# Altium schematic symbol library SCHLib.SchLib: 80 symbols (part 2 of 3)
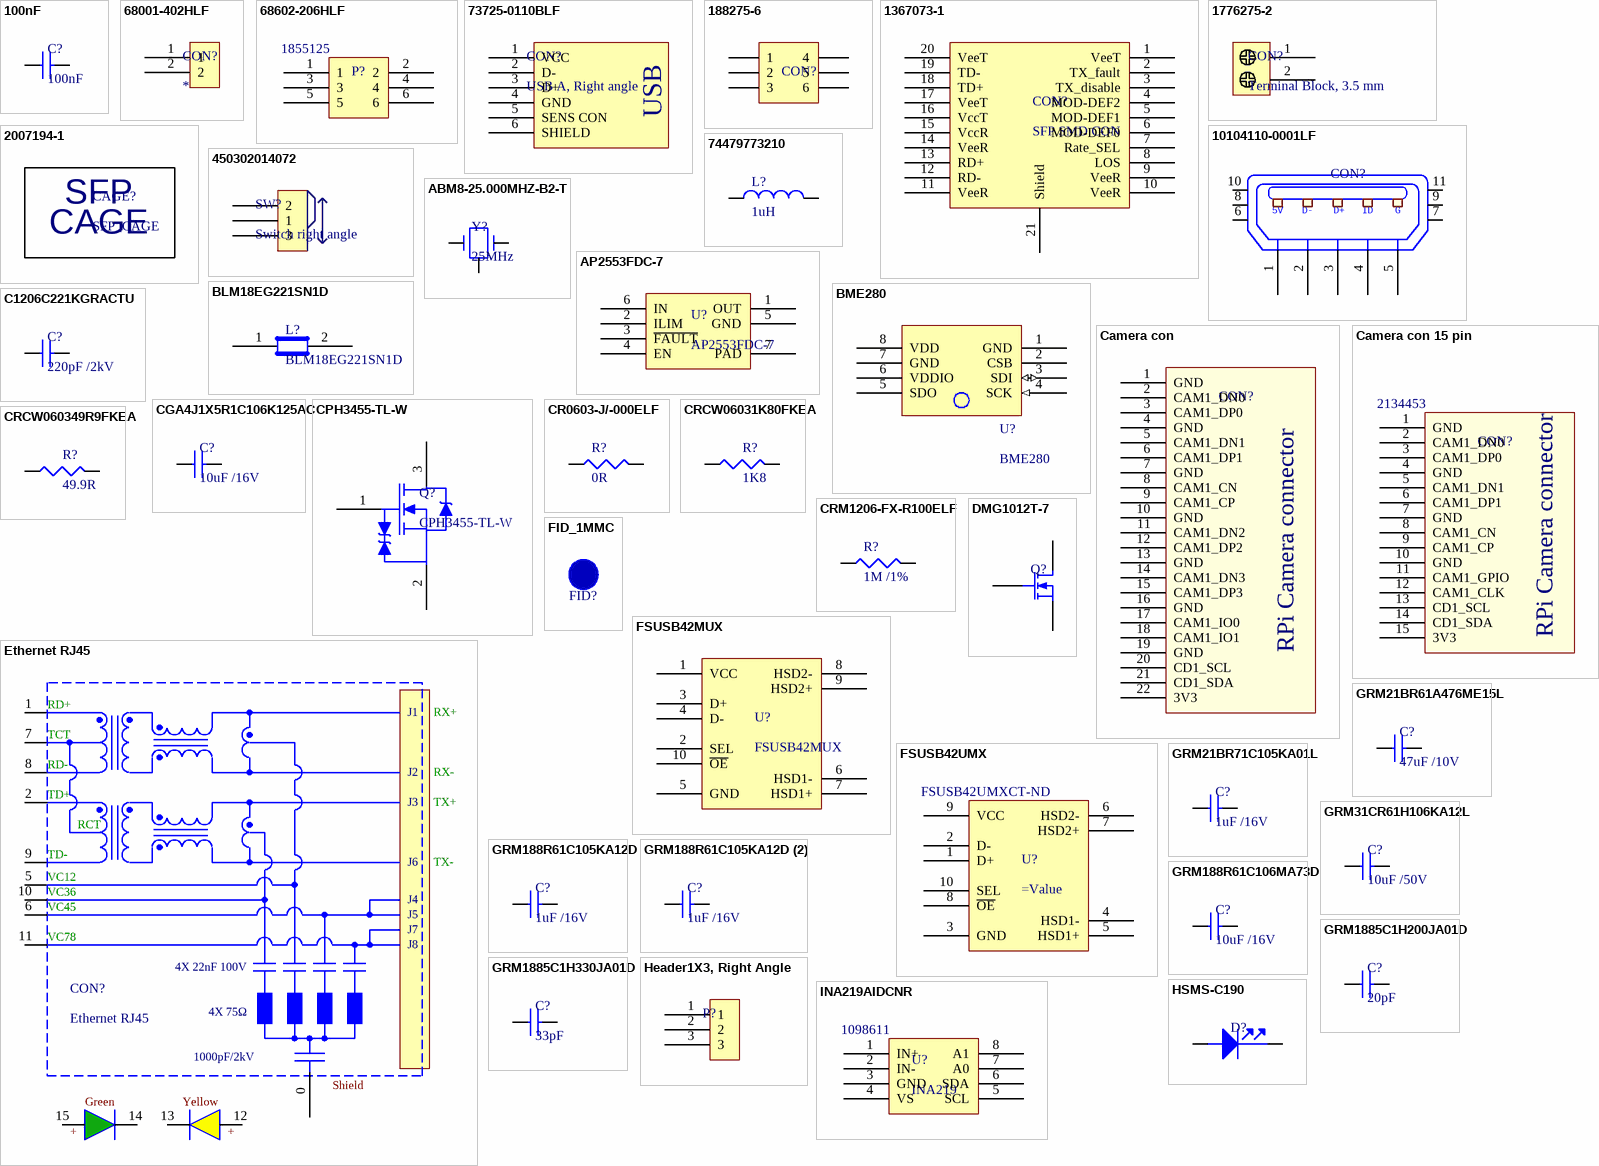
[diagram p3: symbols 100nF to INA219AIDCNR]

## GRM188R61C106MA73D
designator C?, comment 10uF /16V
MURATA - GRM188R61C106MA73D - CAP, MLCC, X5R, 10UF, 16V, 0603; Ceramic Capacitor Case: 0603 [1608 Metric]; Capacitance: 10; Voltage Rating: 16; Capacitance Tolerance: ± 20%; Dielectric Characteristic: X5; Product Range: GRM Series; SVHC: No SVHC (17-Dec-2015)<!--FANDB--><div class="features-and-benefits-container"><div class="features-and-benefits-description"><span class="features-benefits-value">The Murata GRM series capacitors are Multilayer Ceramic Chip Capacitors (MLCC) used for general purpose applications. These MLCC capacitors are classified into temperature compensating and high dielectric constant types depending on the change in electrostatic capacitance due to change in temperature. The temperature compensating capacitors feature a small rate of change in electrostatic capacitance as the temperature changes and are used for applications such as filters and high frequency circuit matching. The high dielectric constant capacitors use materials with a high dielectric constant and feature a large electrostatic capacitance. Typical applications are power supply decoupling and smoothing circuits.</span></div><div class="features-and-benefits-list"><ul class="features-and-benefits-list-list"><li class="features-and-benefits-list-item">Large capacity and small size in a multilayer structure</li><li class="features-and-benefits-list-item">Capacitance value ranging from 0.1pF to 220?F</li><li class="features-and-benefits-list-item">Tin plated external electrodes, excellent solderability</li><li class="features-and-benefits-list-item">Provides good high frequency characteristics</li><li class="features-and-benefits-list-item">Excellent pulse response</li><li class="features-and-benefits-list-item">High reliability</li><li class="features-and-benefits-list-item">Capacitor size varies from 0.4×0.2mm to 5.7×5.0mm</li><li class="features-and-benefits-list-item">Rated voltage of 2.5VDC to 3.15; Supplier 1: Farnell; Manufacturer: MURATA; Manufacturer Part Number: GRM188R61C106MA73D; RoHS: YES; Stock 1: 21735; Pricing 1: 10=0.181, 100=0.103, 500=0.0863, 1000=0.0778, 2000=0.0677 (GBP); Packaging: Cut Tape; Operating Temperature Min: -55; Operating Temperature Max: 85; Automotive Qualification Standard: -; MSL: -; ComponentLink1URL: http://www.farnell.com/datasheets/2048226.pdf; ComponentLink1Description: http://www.farnell.com/datasheets/2048226.pdf; Supplier Part Number 1: 2426958
footprint CAP0603
pins: 1, 2

## GRM1885C1H200JA01D
designator C?, comment 20pF
MURATA - GRM1885C1H200JA01D - CAPACITOR, MLCC, C0G, 20PF, 50V, 0603; Ceramic Capacitor Case: 0603 [1608 Metric]; Capacitance: 20; Voltage Rating: 50; Capacitance Tolerance: ± 5%; Dielectric Characteristic: C0G / NP0; Product Range: GRM Series; SVHC: No SVHC (17-Dec-2015; Supplier 1: Farnell; Manufacturer: MURATA; Manufacturer Part Number: GRM1885C1H200JA01D; RoHS: YES; Stock 1: 5812; Pricing 1: 10=0.0245, 100=0.0159, 500=0.0123, 1000=0.0095, 2000=0.0093, 4000=0.0073, 20000=0.0062, 40000=0.0057 (GBP); Packaging: Cut Tape; Operating Temperature Min: -55; Operating Temperature Max: 125; Automotive Qualification Standard: -; MSL: MSL 1 - Unlimited; ComponentLink1URL: http://www.farnell.com/datasheets/2048077.pdf; ComponentLink1Description: http://www.farnell.com/datasheets/2048077.pdf; Supplier Part Number 1: 2456108
footprint CAP0603
pins: 1, 2

## GRM1885C1H330JA01D
designator C?, comment 33pF
MURATA - GRM1885C1H330JA01D - CAP, MLCC, C0G/NP0, 33PF, 50V, 0603; Ceramic Capacitor Case: 0603 [1608 Metric]; Capacitance: 33; Voltage Rating: 50; Capacitance Tolerance: ± 5%; Product Range: GRM Series; SVHC: No SVHC (17-Dec-2015); Capacitor Terminals: SMD<!--FANDB--><div class="features-and-benefits-container"><div class="features-and-benefits-description"><span class="features-benefits-value">The Murata GRM series capacitors are Multilayer Ceramic Chip Capacitors (MLCC) used for general purpose applications. These MLCC capacitors are classified into temperature compensating and high dielectric constant types depending on the change in electrostatic capacitance due to change in temperature. The temperature compensating capacitors feature a small rate of change in electrostatic capacitance as the temperature changes and are used for applications such as filters and high frequency circuit matching. The high dielectric constant capacitors use materials with a high dielectric constant and feature a large electrostatic capacitance. Typical applications are power supply decoupling and smoothing circuits.</span></div><div class="features-and-benefits-list"><ul class="features-and-benefits-list-list"><li class="features-and-benefits-list-item">Large capacity and small size in a multilayer structure</li><li class="features-and-benefits-list-item">Capacitance value ranging from 0.1pF to 220?F</li><li class="features-and-benefits-list-item">Tin plated external electrodes, excellent solderability</li><li class="features-and-benefits-list-item">Provides good high frequency characteristics</li><li class="features-and-benefits-list-item">Excellent pulse response</li><li class="features-and-benefits-list-item">High reliability</li><li class="features-and-benefits-list-item">Capacitor size varies from 0.4×0.2mm to 5.7×5.0mm</li><li class="features-and-benefits-list-item">Rated voltage of 2.5VDC to 3.15; Supplier 1: Farnell; Manufacturer: MURATA; Manufacturer Part Number: GRM1885C1H330JA01D; RoHS: YES; Stock 1: 11752; Pricing 1: 10=0.0153, 100=0.0104, 500=0.0085, 1000=0.0069, 2000=0.0063 (GBP); Dielectric Characteristic: C0G / NP0; Packaging: Cut Tape; Operating Temperature Min: -55; Operating Temperature Max: 125; Automotive Qualification Standard: -; MSL: -; Capacitance Tolerance ±: ± 5%; ComponentLink1URL: http://www.farnell.com/datasheets/2048656.pdf; ComponentLink1Description: http://www.farnell.com/datasheets/2048656.pdf; Supplier Part Number 1: 1828910
footprint CAP0603
pins: 1, 2

## Header1X3, Right Angle
designator P?, comment HDR1X3  (value not drawn)
Header1X3, Right Angle; Manufacturer: AMP - TE CONNECTIVITY; Manufacturer Part Number: 826949-6; Pitch Spacing: 2.54; No. of Contacts: 6; Gender: Header; Product Range: AMPMODU MOD II Series; Contact Termination Type: Through Hole; No. of Rows: 1; SVHC: No SVHC (15-Jun-2015); Contact Termination: Through Hole Right Angle; Current Rating: 3; Supplier 1: Farnell; RoHS: YES; Stock 1: 350; Pricing 1: 10=0.34, 50=0.195, 500=0.162, 1000=0.154, 2500=0.148, 5000=0.14 (GBP); Contact Plating: Tin Plated Contacts; Contact Material: Brass; Flammability Rating: UL94V-0; Housing: Green, glass filled polyester; Lead Spacing: 2.54; Termination Method: Solder<!--FANDB--><div class="features-and-benefits-container"><div class="features-and-benefits-description"><span class="features-benefits-value">The TE Connectivity AMPMODU Mod II breakaway pin headers provide a comprehensive solution for popular connection standard. These headers can be conveniently broken to any size to ensure maximum versatility and are available in straight and right angle. Mod II breakaway headers are compatible with mating receptacles assured through a range of pin lengths and plating options. Pin headers are offered for surface mount, press fit action pin and standard through hole solder types.</span></div><div class="features-and-benefits-list"><ul class="features-and-benefits-list-list"><li class="features-and-benefits-list-item">Comprehensive single and double row connector system</li><li class="features-and-benefits-list-item">Current rating 3A max per contact</li><li class="features-and-benefits-list-item">Pitch size is 2.54mm</li><li class="features-and-benefits-list-item">Operating temperature range -55°C to +105°C</li><li class="features-and-benefits-list-item">Contact resistance of 20mohm</li><li class="features-and-benefits-list-item">Insulation resistance of 1000Mohm</li><li class="features-and-benefits-list-item">Tin and gold plated contacts available</li><li class="features-and-benefits-list-item">Features 0.63; ComponentLink1URL: http://www.farnell.com/cad/1656407.pdf; ComponentLink1Description: http://www.farnell.com/cad/1656407.pdf; ComponentLink2URL: http://www.farnell.com/datasheets/38081.pdf; ComponentLink2Description: http://www.farnell.com/datasheets/38081.pdf; Supplier Part Number 1: 1248180
footprint HDR1X3H (Connector; Header; 3 Position; Right Angle)
pins: 1, 2, 3

## HSMS-C190
designator D?, comment LED RED  (value not drawn)
BROADCOM LIMITED - HSMS-C190 - LED, RED, 10MCD, 626NM; LED Mounting: SMD; Forward Current If: 20; Forward Voltage: 2.1; Wavelength Typ: 626; Luminous Intensity: 10; Viewing Angle: 170°; Lens Shape: Rectangular; SVHC: No SVHC (17-Dec-2015)<!--FANDB--><div class="features-and-benefits-container"><div class="features-and-benefits-description"><span class="features-benefits-value">The HSMS-C190 is a HER SMD Chip LED with untinted/diffused lens, made of GaP. It is designed in an industry standard package 1.6 x 0.8mm footprint with 0.8mm profile. It is compatible with IR reflow solder processes. The small size and wide viewing angle make this LED prime choices for backlighting applications and front panel illumination especially where space is a premium.</span></div><div class="features-and-benefits-list"><ul class="features-and-benefits-list-list"><li class="features-and-benefits-list-item">Small size</li><li class="features-and-benefits-list-item">Industry standard footprint</li><li class="features-and-benefits-list-item">Compatible with IR solder</li><li class="features-and-benefits-list-item">Diffused optics</li><li class="features-and-benefits-list-item">-40 to 85; Supplier 1: Farnell; Manufacturer: BROADCOM LIMITED; Manufacturer Part Number: HSMS-C190; RoHS: YES; Stock 1: 7534; Pricing 1: 1=0.361, 10=0.256, 50=0.235, 100=0.106, 200=0.101 (GBP); LED Colour: Red; Bulb Size: -; Packaging: Cut Tape; Product Range: -; Automotive Qualification Standard: -; MSL: -; ComponentLink1URL: http://www.farnell.com/datasheets/313031.pdf; ComponentLink1Description: http://www.farnell.com/datasheets/313031.pdf; ComponentLink2URL: http://www.farnell.com/datasheets/1681524.pdf; ComponentLink2Description: http://www.farnell.com/datasheets/1681524.pdf; ComponentLink3URL: http://www.farnell.com/datasheets/2165483.pdf; ComponentLink3Description: http://www.farnell.com/datasheets/2165483.pdf; Supplier Part Number 1: 2497356
footprint LED0603
pins: 1 cathode, 2 ANODE

## INA219AIDCNR
designator U?, comment INA219  Supplier Part Number 2: 1098611
TEXAS INSTRUMENTS - INA219AIDCNR - CURRENT / POWER MONITOR, 120DB, 8SOT23; No. of Amplifiers: 1 Amplifier; Amplifier Case Style: SOT-23; No. of Pins: 8; Bandwidth: 3.4; Supply Voltage Min: 3; Supply Voltage Max: 5.5; Input Offset Voltage: 10; CMRR: 120; SVHC: No SVHC (15-Jun-2015); Supply Current: 700; Supply Voltage Range: 3V to 5.5V<!--FANDB--><div class="features-and-benefits-container"><div class="features-and-benefits-description"><span class="features-benefits-value">The INA219AIDCNR is a high-side Current Shunt and Power Monitor with an I²C interface. The INA219AIDCNR monitors both shunt drop and supply voltage, with programmable conversion times and filtering. A programmable calibration value, combined with an internal multiplier, enables direct readouts in amperes. An additional multiplying register calculates power in watts. The I²C interface features 16 programmable addresses. The INA219 is available in two grades; Pitch Spacing: 3.5; No. of Positions: 2; Wire Size AWG Min: 26; Wire Size AWG Max: 18; Conductor Area CSA: 0.9; Wire Connection Method: Screw; Rated Current: 7; Rated Voltage: 250; Block Orientation: Through Hole Right Angle; Approval Bodies: CSA, UL; Connector Mounting: PCB Mount; Connector Type: Terminal Block, PCB; Wire Area Size Max: 2.08mm²<!--FANDB--><div class="features-and-benefits-container"><div class="features-and-benefits-description"><span class="features-benefits-value">The 1776275-2 from TE Connectivity is a through hole, 2 position vertical PCB mount terminal block with interlocking. This terminal block comes with 3.5mm pitch spacing and is suitable for wire size ranging from 26AWG to 18; Supplier 1: Farnell; Manufacturer: TEXAS INSTRUMENTS; Manufacturer Part Number: INA219AIDCNR; RoHS: YES; Stock 1: 1771; Pricing 1: 1=1.87, 10=1.48, 25=1.33, 100=1.2, 250=1.13, 500=0.751 (GBP); Input Bias Current: -; Operating Temperature Min: -25; Operating Temperature Max: 85; Packaging: Cut Tape; Product Range: -; Automotive Qualification Standard: -; MSL: MSL 2 - 1 year; ComponentLink1URL: http://www.farnell.com/datasheets/2019169.pdf; ComponentLink1Description: http://www.farnell.com/datasheets/2019169.pdf; ComponentLink2URL: http://www.farnell.com/cad/1758439.zip; ComponentLink2Description: http://www.farnell.com/cad/1758439.zip; ComponentLink3URL: http://www.farnell.com/datasheets/2037325.pdf; ComponentLink3Description: http://www.farnell.com/datasheets/2037325.pdf; Supplier Part Number 1: 2295989; Supplier 2: Farnell; Stock 2: 22978; Pricing 2: 1=0.198, 50=0.148, 150=0.141, 250=0.135, 500=0.128, 1500=0.123 (GBP); Colour: Blue; Contact Current Rating: 10; Contact Material: Brass; Contact Plating: Tin Plated Contacts; Lead Spacing: 3.5; Voltage Rating VAC: 250; ComponentLink4URL: http://www.farnell.com/datasheets/1899918.pdf; ComponentLink4Description: http://www.farnell.com/datasheets/1899918.pdf; ComponentLink5URL: http://www.farnell.com/cad/2291290.pdf; ComponentLink5Description: http://www.farnell.com/cad/2291290.pdf; ComponentLink6URL: http://www.farnell.com/datasheets/1650926.pdf; ComponentLink6Description: http://www.farnell.com/datasheets/1650926.pdf; ComponentLink7URL: http://www.farnell.com/datasheets/2159487.pdf; ComponentLink7Description: http://www.farnell.com/datasheets/2159487.pdf
footprint SOT23-8PIN
pins: 1 IN+ (oc), 2 IN- (oc), 3 GND (oc), 4 VS (oc), 5 SCL (oc), 6 SDA (oc), 7 A0 (oc), 8 A1 (oc)

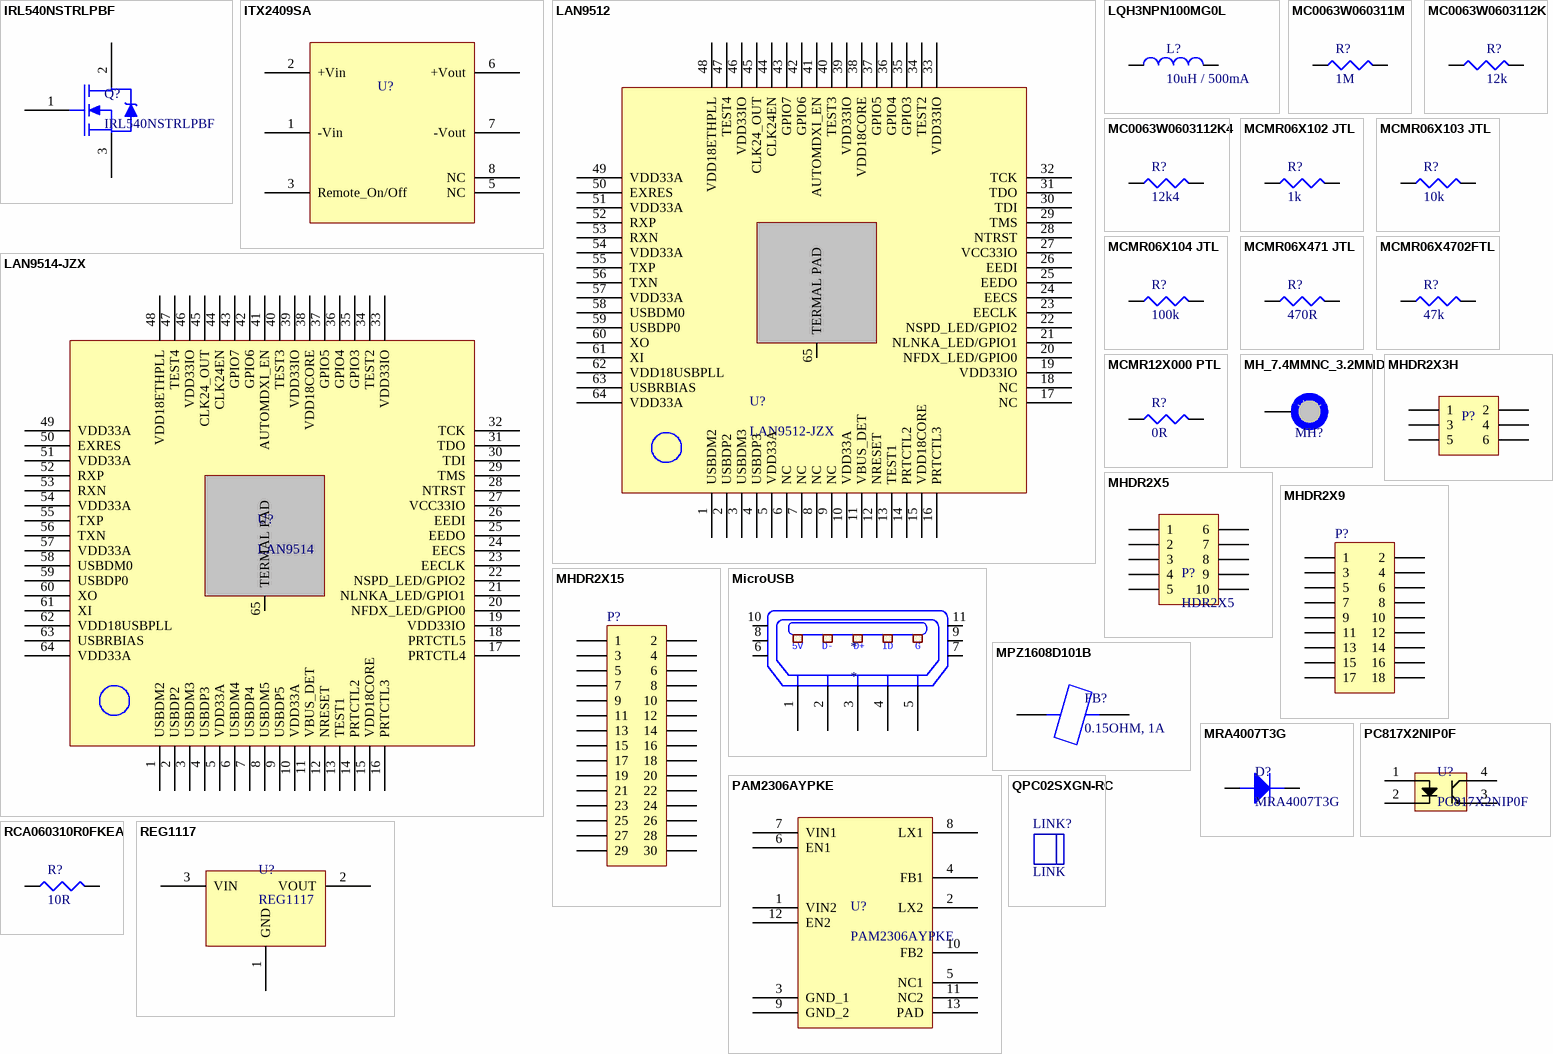
[diagram p1: symbols IRL540NSTRLPBF to REG1117]

## IRL540NSTRLPBF
designator Q?
INFINEON - IRL540NSTRLPBF - MOSFET, N-CH, 100V, 36A, TO-263; Transistor Polarity: N Channel; Continuous Drain Current Id: 36; Drain Source Voltage Vds: 100; On Resistance Rds(on): 0.044; Rds(on) Test Voltage Vgs: 10; Threshold Voltage Vgs: 2; Power Dissipation Pd: 140; No. of Pins: 3; Product Range: HEXFET Series; SVHC: No SVHC (12-Jan-2017)<!--FANDB--><div class="features-and-benefits-container"><div class="features-and-benefits-desc-container"><span class="features-and-benefits-container-desc">MOSFET Transistor, N Channel, 36 A, 100 V, 0.044 ohm, 10 V, 2 V</span></div></div>; Supplier 1: Farnell; Manufacturer: INFINEON; Manufacturer Part Number: IRL540NSTRLPBF; RoHS: YES; Stock 1: 655; Pricing 1: 1=0.832, 10=0.723, 100=0.565, 250=0.511, 500=0.443, 1000=0.373 (GBP); Transistor Case Style: TO-263; Operating Temperature Max: 175; Automotive Qualification Standard: -; MSL: MSL 1 - Unlimited; ComponentLink1URL: http://www.farnell.com/datasheets/140629.pdf; ComponentLink1Description: http://www.farnell.com/datasheets/140629.pdf; ComponentLink2URL: http://www.farnell.com/datasheets/2062819.pdf; ComponentLink2Description: http://www.farnell.com/datasheets/2062819.pdf; Supplier Part Number 1: 2726001
pins: 1 (oc), 2 (oc), 3 (oc)

## ITX2409SA
designator U?  (value not drawn)
Isolated Board Mount DC/DC Converter, 2:1 Input, Fixed, 1 Output, 18 V, 36 V, 6 W, 9 V; Manufacturer: XP POWER; Input Voltage DC Min: 18; Input Voltage DC Max: 36; Output Power Max: 6; Output Voltage - Output 1: 9; Output Current - Output 1: 666; DC / DC Converter Mounting: Through Hole; Product Range: ITX Series<!--FANDB--><div class="features-and-benefits-container"><div class="features-and-benefits-description"><span class="features-benefits-value">The ITX series isolated 6W DC-DC Converter.</span></div><div class="features-and-benefits-list"><ul class="features-and-benefits-list-list"><li class="features-and-benefits-list-item">Single and dual outputs</li><li class="features-and-benefits-list-item">Remote control option</li><li class="features-and-benefits-list-item">2; Supplier 1: Farnell; Manufacturer Part Number: ITX2409SA; RoHS: YES; Pricing 1: 1=15.41, 5=14.95, 10=14.49, 25=13.87, 100=12.95 (GBP); DC / DC Converter Output Type: Fixed; No. of Outputs: 1 Output; Output Voltage - Output 2: -; Output Current - Output 2: -; DC / DC Converter Type: -; Approvals & Standards: -; Width: 9.2; Height: 11.1; Depth: 21.85; Output Voltage - Output 3: -; Output Current - Output 3: -; ComponentLink1URL: http://www.farnell.com/datasheets/1816507.pdf; ComponentLink1Description: http://www.farnell.com/datasheets/1816507.pdf; Supplier 2: Digi-Key; Supplier Part Number 1: 2422810; Supplier Part Number 2: 1470-2544-5-ND
footprint DCDC_M1
pins: 1 -Vin (oc), 2 +Vin (oc), 3 Remote_On/Off (oc), 5 NC (oc), 6 +Vout (oc), 7 -Vout (oc), 8 NC (oc)

## LAN9512
designator U?, comment LAN9512-JZX
USB 2.0 Hub and 10/100  Ethernet Controller; Manufacturer: MICROCHIP; Resistance: 1; Voltage Rating: 50; Resistor Case Style: 0603 [1608 Metric]; Power Rating: 63; Resistance Tolerance: ± 1%; Product Range: MC Series; Resistor Element Material: Thick Film; Temperature Coefficient: ± 100; SVHC: No SVHC (17-Dec-2015); External Depth: 0.45; External Length / Height: 1.6; External Width: 0.8; No. of Pins: 2; Reel Quantity: 5000; Resistor Mounting: Surface Mount Device; Temperature Coeff. +: 100; Tolerance +: 1%; Voltage Rating V DC: 50V<!--FANDB--><div class="features-and-benefits-container"><div class="features-and-benefits-description"><span class="features-benefits-value">The Multicomp MC series current sense resistors are thick film chip resistors. The resistance range includes E96 and E24 decade values from 1ohm to 10Mohm.</span></div><div class="features-and-benefits-list"><ul class="features-and-benefits-list-list"><li class="features-and-benefits-list-item">EIA 0402, 0603, 0805, 1206 chip sizes available</li><li class="features-and-benefits-list-item">Small size and low weight</li><li class="features-and-benefits-list-item">Suitable for both wave and reflow soldering</li><li class="features-and-benefits-list-item">Reduction of assembly costs</li><li class="features-and-benefits-list-item">Maximum working voltage of 50V(0402, 0603), 150V(0805), 200V(1206)</li><li class="features-and-benefits-list-item">Available in ±1%, ±2% and ±5% tolerance</li><li class="features-and-benefits-list-item">Power rating of 62.5mW, 100mW and 125mW</li><li class="features-and-benefits-list-item">±400ppm/°C(1ohm to 10ohm), ±200ppm/°C(11ohm to 100ohm), ±100; Supplier 1: Farnell; Manufacturer Part Number: LAN9512-JZX; RoHS: YES; Pricing 1: 1=3.98, 10=3.62, 25=3.23, 50=3.05, 100=2.87 (GBP); ComponentLink1URL: http://www.farnell.com/datasheets/1686385.pdf; ComponentLink1Description: http://www.farnell.com/datasheets/1686385.pdf; ComponentLink2URL: http://www.farnell.com/cad/1726729.zip; ComponentLink2Description: http://www.farnell.com/cad/1726729.zip; ComponentLink3URL: http://www.farnell.com/datasheets/2158582.pdf; ComponentLink3Description: http://www.farnell.com/datasheets/2158582.pdf; Supplier Part Number 1: 2292586; Supplier 2: Farnell; Stock 2: 333415; Pricing 2: 10=0.0011, 100=0.001, 500=0.0009, 1000=0.0008, 2500=0.0007 (GBP); Packaging: Cut Tape; Automotive Qualification Standard: -; Operating Temperature Max: 155; Operating Temperature Min: -55; Operating Temperature Range: -55°C to +155; Tape Width: 8; Temperature Coeff. -: 100; Tolerance -: 1%; ComponentLink4URL: http://www.farnell.com/datasheets/1788326.pdf; ComponentLink4Description: http://www.farnell.com/datasheets/1788326.pdf; ComponentLink5URL: http://www.farnell.com/cad/1558928.zip; ComponentLink5Description: http://www.farnell.com/cad/1558928.zip; Supplier Part Number 2: 9330410
footprint QFN64
pins: 1 USBDM2, 2 USBDP2, 3 USBDM3, 4 USBDP3, 5 VDD33A, 6 NC, 7 NC, 8 NC, 9 NC, 10 VDD33A, 11 VBUS_DET, 12 NRESET, 13 TEST1, 14 PRTCTL2, 15 VDD18CORE, 16 PRTCTL3, 17 NC, 18 NC, 19 VDD33IO, 20 NFDX_LED/GPIO0, 21 NLNKA_LED/GPIO1, 22 NSPD_LED/GPIO2, 23 EECLK, 24 EECS, 25 EEDO, 26 EEDI, 27 VCC33IO, 28 NTRST, 29 TMS, 30 TDI, 31 TDO, 32 TCK, 33 VDD33IO, 34 TEST2, 35 GPIO3, 36 GPIO4, 37 GPIO5, 38 VDD18CORE, 39 VDD33IO, 40 TEST3, 41 AUTOMDXI_EN, 42 GPIO6, 43 GPIO7, 44 CLK24EN, 45 CLK24_OUT, 46 VDD33IO, 47 TEST4, 48 VDD18ETHPLL, 49 VDD33A, 50 EXRES, 51 VDD33A, 52 RXP, 53 RXN, 54 VDD33A, 55 TXP, 56 TXN, 57 VDD33A, 58 USBDM0, 59 USBDP0, 60 XO, 61 XI, 62 VDD18USBPLL, 63 USBRBIAS, 64 VDD33A, 65 TERMAL PAD (oc)

## LAN9514-JZX
designator U?, comment LAN9514
MICROCHIP - LAN9514-JZX - IC, USB2 - ENET CNTRL 4-PORT HUB, 64VQFN; Supplier 1: Farnell; Manufacturer: MICROCHIP; Manufacturer Part Number: LAN9514-JZX; RoHS: YES; Stock 1: 1046; Pricing 1: 1=5.09, 10=4.39, 25=3.94, 50=3.66, 100=3.36 (GBP); ComponentLink1URL: http://www.farnell.com/datasheets/1686386.pdf; ComponentLink1Description: http://www.farnell.com/datasheets/1686386.pdf; ComponentLink2URL: http://www.farnell.com/cad/1726731.zip; ComponentLink2Description: http://www.farnell.com/cad/1726731.zip; ComponentLink3URL: http://www.farnell.com/datasheets/2158582.pdf; ComponentLink3Description: http://www.farnell.com/datasheets/2158582.pdf; Supplier Part Number 1: 2292587
footprint QFN64
pins: 1 USBDM2, 2 USBDP2, 3 USBDM3, 4 USBDP3, 5 VDD33A, 6 USBDM4, 7 USBDP4, 8 USBDM5, 9 USBDP5, 10 VDD33A, 11 VBUS_DET, 12 NRESET, 13 TEST1, 14 PRTCTL2, 15 VDD18CORE, 16 PRTCTL3, 17 PRTCTL4, 18 PRTCTL5, 19 VDD33IO, 20 NFDX_LED/GPIO0, 21 NLNKA_LED/GPIO1, 22 NSPD_LED/GPIO2, 23 EECLK, 24 EECS, 25 EEDO, 26 EEDI, 27 VCC33IO, 28 NTRST, 29 TMS, 30 TDI, 31 TDO, 32 TCK, 33 VDD33IO, 34 TEST2, 35 GPIO3, 36 GPIO4, 37 GPIO5, 38 VDD18CORE, 39 VDD33IO, 40 TEST3, 41 AUTOMDXI_EN, 42 GPIO6, 43 GPIO7, 44 CLK24EN, 45 CLK24_OUT, 46 VDD33IO, 47 TEST4, 48 VDD18ETHPLL, 49 VDD33A, 50 EXRES, 51 VDD33A, 52 RXP, 53 RXN, 54 VDD33A, 55 TXP, 56 TXN, 57 VDD33A, 58 USBDM0, 59 USBDP0, 60 XO, 61 XI, 62 VDD18USBPLL, 63 USBRBIAS, 64 VDD33A, 65 TERMAL PAD (oc)

## LQH3NPN100MG0L
designator L?, comment 10uH / 500mA
Fixed Inductors 1212 10uH 20%; Manufacturer: Murata Electronics; Manufacturer Part Number: LQH3NPN100MG0L; Core Material: Ferrite Core; Maximum DC Resistance: 0.57 Ohms; Self Resonant Frequency: 45 MHz; Shielding: Shielded; Type: Power Wound Type Chip Coil Chip Inductors; Supplier 1: Mouser; RoHS: RoHS Compliant; Category: Fixed Inductors; Stock 1: 1981; Pricing 1: 1=0.396, 10=0.303, 100=0.243, 500=0.210, 1500=0.146, 3000=0.138, 9000=0.125, 24000=0.122, 49500=0.115 (EUR); Diameter: -; Height: 0.9 mm; Inductance: 10 uH; Length: 3 mm; Maximum DC Current: 500 mA; Operating Temperature Range: - 40 C to + 125 C; Package/Case: 1212 (3030 metric); Packaging: Reel; Product: Power Inductors; Q Minimum: -; Series: LQH N; Termination Style: SMD/SMT; Tolerance: 20 %; Width: 3 mm; Brand: Murata Electronics; Mounting Style: SMD/SMT; Lead Diameter: -; Lead Spacing: -; Standard Pack Qty: 1500; Test Frequency: -; RoHS - Mouser: Y; Minimum Order Quantity: 1; Reeling: True; ComponentLink1URL: http://www.mouser.com/ds/2/281/L0075S0103LQH3NP_M0-1074877.pdf; ComponentLink1Description: http://www.mouser.com/ds/2/281/L0075S0103LQH3NP_M0-1074877.pdf; Supplier Part Number 1: 81-LQH3NPN100MG0L
footprint IND1212
pins: 1, 2

## MC0063W060311M
designator R?, comment 1M
MULTICOMP - MC0063W060311M - RES, THICK FILM, 1M, 1%, 0.063W, 0603; Resistance: 1; Voltage Rating: 50; Resistor Case Style: 0603 [1608 Metric]; Power Rating: 63; Product Range: MC Series; Temperature Coefficient: ± 100; SVHC: No SVHC (17-Dec-2015); External Depth: 0.45; External Length / Height: 1.6; External Width: 0.8; No. of Pins: 2; Reel Quantity: 5000; Resistor Mounting: Surface Mount Device; Temperature Coeff. +: 100; Voltage Rating V DC: 50V<!--FANDB--><div class="features-and-benefits-container"><div class="features-and-benefits-description"><span class="features-benefits-value">The Multicomp MC series current sense resistors are thick film chip resistors. The resistance range includes E96 and E24 decade values from 1ohm to 10Mohm.</span></div><div class="features-and-benefits-list"><ul class="features-and-benefits-list-list"><li class="features-and-benefits-list-item">EIA 0402, 0603, 0805, 1206 chip sizes available</li><li class="features-and-benefits-list-item">Small size and low weight</li><li class="features-and-benefits-list-item">Suitable for both wave and reflow soldering</li><li class="features-and-benefits-list-item">Reduction of assembly costs</li><li class="features-and-benefits-list-item">Maximum working voltage of 50V(0402, 0603), 150V(0805), 200V(1206)</li><li class="features-and-benefits-list-item">Available in ±1%, ±2% and ±5% tolerance</li><li class="features-and-benefits-list-item">Power rating of 62.5mW, 100mW and 125mW</li><li class="features-and-benefits-list-item">±400ppm/°C(1ohm to 10ohm), ±200ppm/°C(11ohm to 100ohm), ±100; Supplier 1: Farnell; Manufacturer: MULTICOMP; Manufacturer Part Number: MC0063W060311M; RoHS: Y-EX; Stock 1: 333415; Pricing 1: 10=0.0011, 100=0.001, 500=0.0009, 1000=0.0008, 2500=0.0007 (GBP); Resistance Tolerance: ± 1%; Packaging: Cut Tape; Resistor Element Material: Thick Film; Automotive Qualification Standard: -; Operating Temperature Max: 155; Operating Temperature Min: -55; Operating Temperature Range: -55°C to +155; Tape Width: 8; Temperature Coeff. -: 100; Tolerance +: 1%; Tolerance -: 1%; ComponentLink1URL: http://www.farnell.com/datasheets/1788326.pdf; ComponentLink1Description: http://www.farnell.com/datasheets/1788326.pdf; ComponentLink2URL: http://www.farnell.com/cad/1558928.zip; ComponentLink2Description: http://www.farnell.com/cad/1558928.zip; Supplier Part Number 1: 9330410
footprint RES0603
pins: 1, 2

## MC0063W0603112K
designator R?, comment 12k
MULTICOMP - MC0063W0603112K - RES, THICK FILM, 12K, 1%, 0.063W, 0603; Resistance: 12; Voltage Rating: 50; Resistor Case Style: 0603 [1608 Metric]; Power Rating: 63; Product Range: MC Series; Temperature Coefficient: ± 100; Reel Quantity: 5000; Resistor Mounting: Surface Mount Device<!--FANDB--><div class="features-and-benefits-container"><div class="features-and-benefits-description"><span class="features-benefits-value">The Multicomp MC series current sense resistors are thick film chip resistors. The resistance range includes E96 and E24 decade values from 1ohm to 10Mohm.</span></div><div class="features-and-benefits-list"><ul class="features-and-benefits-list-list"><li class="features-and-benefits-list-item">EIA 0402, 0603, 0805, 1206 chip sizes available</li><li class="features-and-benefits-list-item">Small size and low weight</li><li class="features-and-benefits-list-item">Suitable for both wave and reflow soldering</li><li class="features-and-benefits-list-item">Reduction of assembly costs</li><li class="features-and-benefits-list-item">Maximum working voltage of 50V(0402, 0603), 150V(0805), 200V(1206)</li><li class="features-and-benefits-list-item">Available in ±1%, ±2% and ±5% tolerance</li><li class="features-and-benefits-list-item">Power rating of 62.5mW, 100mW and 125mW</li><li class="features-and-benefits-list-item">±400ppm/°C(1ohm to 10ohm), ±200ppm/°C(11ohm to 100ohm), ±100; Supplier 1: Farnell; Manufacturer: MULTICOMP; Manufacturer Part Number: MC0063W0603112K; RoHS: Y-EX; Stock 1: 784996; Pricing 1: 5000=0.0006, 25000=0.0005, 50000=0.0004 (GBP); Resistance Tolerance: ± 1%; Packaging: Tape & Reel; Resistor Element Material: Thick Film; Automotive Qualification Standard: -; ComponentLink1URL: http://www.farnell.com/datasheets/1788326.pdf; ComponentLink1Description: http://www.farnell.com/datasheets/1788326.pdf; ComponentLink2URL: http://www.farnell.com/datasheets/1944283.pdf; ComponentLink2Description: http://www.farnell.com/datasheets/1944283.pdf; Supplier Part Number 1: 2130943
footprint RES0603
pins: 1, 2

## MC0063W0603112K4
designator R?, comment 12k4
MULTICOMP - MC0063W0603112K4 - RES, THICK FILM, 12K4, 1%, 0.063W, 0603; Resistance: 12.4; Voltage Rating: 50; Resistor Case Style: 0603 [1608 Metric]; Power Rating: 63; Product Range: MC Series; Temperature Coefficient: ± 100; SVHC: No SVHC (17-Dec-2015); External Depth: 0.45; External Length / Height: 1.6; External Width: 0.8; No. of Pins: 2; Reel Quantity: 5000; Resistor Mounting: Surface Mount Device; Temperature Coeff. +: 100; Voltage Rating V DC: 50V<!--FANDB--><div class="features-and-benefits-container"><div class="features-and-benefits-description"><span class="features-benefits-value">The Multicomp MC series current sense resistors are thick film chip resistors. The resistance range includes E96 and E24 decade values from 1ohm to 10Mohm.</span></div><div class="features-and-benefits-list"><ul class="features-and-benefits-list-list"><li class="features-and-benefits-list-item">EIA 0402, 0603, 0805, 1206 chip sizes available</li><li class="features-and-benefits-list-item">Small size and low weight</li><li class="features-and-benefits-list-item">Suitable for both wave and reflow soldering</li><li class="features-and-benefits-list-item">Reduction of assembly costs</li><li class="features-and-benefits-list-item">Maximum working voltage of 50V(0402, 0603), 150V(0805), 200V(1206)</li><li class="features-and-benefits-list-item">Available in ±1%, ±2% and ±5% tolerance</li><li class="features-and-benefits-list-item">Power rating of 62.5mW, 100mW and 125mW</li><li class="features-and-benefits-list-item">±400ppm/°C(1ohm to 10ohm), ±200ppm/°C(11ohm to 100ohm), ±100; Supplier 1: Farnell; Manufacturer: MULTICOMP; Manufacturer Part Number: MC0063W0603112K4; RoHS: Y-EX; Stock 1: 16712; Pricing 1: 10=0.0113, 1000=0.005, 1250=0.0046, 1750=0.0041, 2500=0.004 (GBP); Resistance Tolerance: ± 1%; Packaging: Cut Tape; Resistor Element Material: Thick Film; Automotive Qualification Standard: -; Operating Temperature Max: 155; Operating Temperature Min: -55; Operating Temperature Range: -55°C to +155; Tape Width: 8; Temperature Coeff. -: 100; Tolerance +: 1%; Tolerance -: 1%; ComponentLink1URL: http://www.farnell.com/datasheets/1788326.pdf; ComponentLink1Description: http://www.farnell.com/datasheets/1788326.pdf; ComponentLink2URL: http://www.farnell.com/cad/1561155.zip; ComponentLink2Description: http://www.farnell.com/cad/1561155.zip; Supplier Part Number 1: 1170897
footprint RES0603
pins: 1, 2

## MCMR06X102 JTL
designator R?, comment 1k
MULTICOMP - MCMR06X102 JTL - RES, CERAMIC, 1K, 5%, 0.1W, 0603; Resistance: 1; Voltage Rating: 75; Resistor Case Style: 0603 [1608 Metric]; Power Rating: 100; Product Range: MCMR Series; Temperature Coefficient: ± 100; Resistor Mounting: Surface Mount Device<!--FANDB--><div class="features-and-benefits-container"><div class="features-and-benefits-description"><span class="features-benefits-value">The Multicomp MCMR series resistors are automotive grade, anti sulphured thick film chip resistor. The resistance range includes E24 and E96 decade values from 1ohm to 10Mohm. These resistors are constructed on top of a high grade ceramic body.</span></div><div class="features-and-benefits-list"><ul class="features-and-benefits-list-list"><li class="features-and-benefits-list-item">EIA 0402, 0603, 0805, 1206 chip sizes available</li><li class="features-and-benefits-list-item">High reliability and stability</li><li class="features-and-benefits-list-item">Automotive grade AEC-Q200 compliant</li><li class="features-and-benefits-list-item">Complaint with (IEC 60068-1) 55/155/56 climatic category</li><li class="features-and-benefits-list-item">Maximum operation voltage of 50V, 75V, 150V and 200V</li><li class="features-and-benefits-list-item">Power rating of 62.5mW, 100mW, 125mW and 250mW</li><li class="features-and-benefits-list-item">Available in ±1% and ±5% tolerance</li><li class="features-and-benefits-list-item">Temperature coefficient (TCR) of +200ppm/°C, +100ppm/°C and -200ppm/°C to +400ppm/°C</li><li class="features-and-benefits-list-item">Operating temperature range -55°C to 155; Supplier 1: Farnell; Manufacturer: MULTICOMP; Manufacturer Part Number: MCMR06X102 JTL; RoHS: Y-EX; Stock 1: 18133; Pricing 1: 10=0.0089, 100=0.0076, 500=0.0063, 1000=0.0049, 2500=0.0033, 5000=0.0024, 25000=0.0016, 50000=0.0013 (GBP); Resistance Tolerance: ± 5%; Packaging: Cut Tape; Resistor Element Material: Ceramic; Automotive Qualification Standard: -; ComponentLink1URL: http://www.farnell.com/datasheets/1716707.pdf; ComponentLink1Description: http://www.farnell.com/datasheets/1716707.pdf; Supplier Part Number 1: 2073354
footprint RES0603
pins: 1, 2

## MCMR06X103 JTL
designator R?, comment 10k
MULTICOMP - MCMR06X103 JTL - RES, CERAMIC, 10K, 5%, 0.1W, 0603; Resistance: 10; Voltage Rating: 75; Resistor Case Style: 0603 [1608 Metric]; Power Rating: 100; Product Range: MCMR Series; Temperature Coefficient: ± 100; Automotive Qualification Standard: -<!--FANDB--><div class="features-and-benefits-container"><div class="features-and-benefits-description"><span class="features-benefits-value">The Multicomp MCMR series resistors are automotive grade, anti sulphured thick film chip resistor. The resistance range includes E24 and E96 decade values from 1ohm to 10Mohm. These resistors are constructed on top of a high grade ceramic body.</span></div><div class="features-and-benefits-list"><ul class="features-and-benefits-list-list"><li class="features-and-benefits-list-item">EIA 0402, 0603, 0805, 1206 chip sizes available</li><li class="features-and-benefits-list-item">High reliability and stability</li><li class="features-and-benefits-list-item">Automotive grade AEC-Q200 compliant</li><li class="features-and-benefits-list-item">Complaint with (IEC 60068-1) 55/155/56 climatic category</li><li class="features-and-benefits-list-item">Maximum operation voltage of 50V, 75V, 150V and 200V</li><li class="features-and-benefits-list-item">Power rating of 62.5mW, 100mW, 125mW and 250mW</li><li class="features-and-benefits-list-item">Available in ±1% and ±5% tolerance</li><li class="features-and-benefits-list-item">Temperature coefficient (TCR) of +200ppm/°C, +100ppm/°C and -200ppm/°C to +400ppm/°C</li><li class="features-and-benefits-list-item">Operating temperature range -55°C to 155; Supplier 1: Farnell; Manufacturer: MULTICOMP; Manufacturer Part Number: MCMR06X103 JTL; RoHS: Y-EX; Stock 1: 19791; Pricing 1: 10=0.0087, 100=0.0074, 500=0.0061, 1000=0.0048, 2500=0.0032, 5000=0.0024, 25000=0.0016, 50000=0.0013 (GBP); Resistance Tolerance: ± 5%; Packaging: Cut Tape; Resistor Element Material: Ceramic; ComponentLink1URL: http://www.farnell.com/datasheets/1716707.pdf; ComponentLink1Description: http://www.farnell.com/datasheets/1716707.pdf; Supplier Part Number 1: 2073356
footprint RES0603
pins: 1, 2

## MCMR06X104 JTL
designator R?, comment 100k
MULTICOMP - MCMR06X104 JTL - RES, CERAMIC, 100K, 5%, 0.1W, 0603; Resistance: 100; Voltage Rating: 75; Resistor Case Style: 0603 [1608 Metric]; Product Range: MCMR Series; Temperature Coefficient: ± 100; Resistor Mounting: Surface Mount Device<!--FANDB--><div class="features-and-benefits-container"><div class="features-and-benefits-description"><span class="features-benefits-value">The Multicomp MCMR series resistors are automotive grade, anti sulphured thick film chip resistor. The resistance range includes E24 and E96 decade values from 1ohm to 10Mohm. These resistors are constructed on top of a high grade ceramic body.</span></div><div class="features-and-benefits-list"><ul class="features-and-benefits-list-list"><li class="features-and-benefits-list-item">EIA 0402, 0603, 0805, 1206 chip sizes available</li><li class="features-and-benefits-list-item">High reliability and stability</li><li class="features-and-benefits-list-item">Automotive grade AEC-Q200 compliant</li><li class="features-and-benefits-list-item">Complaint with (IEC 60068-1) 55/155/56 climatic category</li><li class="features-and-benefits-list-item">Maximum operation voltage of 50V, 75V, 150V and 200V</li><li class="features-and-benefits-list-item">Power rating of 62.5mW, 100mW, 125mW and 250mW</li><li class="features-and-benefits-list-item">Available in ±1% and ±5% tolerance</li><li class="features-and-benefits-list-item">Temperature coefficient (TCR) of +200ppm/°C, +100ppm/°C and -200ppm/°C to +400ppm/°C</li><li class="features-and-benefits-list-item">Operating temperature range -55°C to 155; Supplier 1: Farnell; Manufacturer: MULTICOMP; Manufacturer Part Number: MCMR06X104 JTL; RoHS: Y-EX; Stock 1: 187; Pricing 1: 10=0.0109, 100=0.0085, 500=0.006, 1000=0.0048, 2500=0.004, 5000=0.003, 25000=0.002, 50000=0.0016 (GBP); Power Rating: 100; Resistance Tolerance: ± 5%; Packaging: Cut Tape; Resistor Element Material: Ceramic; Automotive Qualification Standard: -; ComponentLink1URL: http://www.farnell.com/datasheets/1716707.pdf; ComponentLink1Description: http://www.farnell.com/datasheets/1716707.pdf; Supplier Part Number 1: 2073357
footprint RES0603
pins: 1, 2

## MCMR06X471 JTL
designator R?, comment 470R
MULTICOMP - MCMR06X471 JTL - RES, CERAMIC, 470R, 5%, 0.1W, 0603; Supplier 1: Farnell; Manufacturer: MULTICOMP; Manufacturer Part Number: MCMR06X471 JTL; RoHS: Y-EX; Stock 1: 3786; Pricing 1: 10=0.0089, 100=0.0076, 500=0.0063, 1000=0.0049, 2500=0.0033, 5000=0.0024, 25000=0.0016, 50000=0.0013 (GBP); ComponentLink1URL: http://www.farnell.com/datasheets/1716707.pdf; ComponentLink1Description: http://www.farnell.com/datasheets/1716707.pdf; Supplier Part Number 1: 2073513
footprint RES0603
pins: 1, 2

## MCMR06X4702FTL
designator R?, comment 47k
MULTICOMP - MCMR06X4702FTL - RES, CERAMIC, 47K, 1%, 0.1W, 0603; Resistance: 47; Voltage Rating: 75; Resistor Case Style: 0603 [1608 Metric]; Power Rating: 100; Product Range: MCMR Series; Temperature Coefficient: ± 100; Automotive Qualification Standard: -<!--FANDB--><div class="features-and-benefits-container"><div class="features-and-benefits-description"><span class="features-benefits-value">The Multicomp MCMR series resistors are automotive grade, anti sulphured thick film chip resistor. The resistance range includes E24 and E96 decade values from 1ohm to 10Mohm. These resistors are constructed on top of a high grade ceramic body.</span></div><div class="features-and-benefits-list"><ul class="features-and-benefits-list-list"><li class="features-and-benefits-list-item">EIA 0402, 0603, 0805, 1206 chip sizes available</li><li class="features-and-benefits-list-item">High reliability and stability</li><li class="features-and-benefits-list-item">Automotive grade AEC-Q200 compliant</li><li class="features-and-benefits-list-item">Complaint with (IEC 60068-1) 55/155/56 climatic category</li><li class="features-and-benefits-list-item">Maximum operation voltage of 50V, 75V, 150V and 200V</li><li class="features-and-benefits-list-item">Power rating of 62.5mW, 100mW, 125mW and 250mW</li><li class="features-and-benefits-list-item">Available in ±1% and ±5% tolerance</li><li class="features-and-benefits-list-item">Temperature coefficient (TCR) of +200ppm/°C, +100ppm/°C and -200ppm/°C to +400ppm/°C</li><li class="features-and-benefits-list-item">Operating temperature range -55°C to 155; Supplier 1: Farnell; Manufacturer: MULTICOMP; Manufacturer Part Number: MCMR06X4702FTL; RoHS: Y-EX; Stock 1: 21427; Pricing 1: 10=0.0115, 100=0.009, 500=0.0064, 1000=0.0051, 2500=0.0042, 5000=0.0032, 25000=0.0021, 50000=0.0017 (GBP); Resistance Tolerance: ± 1%; Packaging: Cut Tape; Resistor Element Material: Ceramic; ComponentLink1URL: http://www.farnell.com/datasheets/1716707.pdf; ComponentLink1Description: http://www.farnell.com/datasheets/1716707.pdf; Supplier Part Number 1: 2073510
footprint RES0603
pins: 1, 2

## MCMR12X000 PTL
designator R?, comment 0R
MULTICOMP - MCMR12X000 PTL - RES, CERAMIC, 0R, 0.05OHM, 0.25W, 1206; Resistance: 0; Voltage Rating: 200; Resistor Case Style: 1206 [3216 Metric]; Power Rating: 250; Resistance Tolerance: ± 0.05; Product Range: MCMR Series; Temperature Coefficient: -200ppm/°C to +400; Automotive Qualification Standard: -<!--FANDB--><div class="features-and-benefits-container"><div class="features-and-benefits-description"><span class="features-benefits-value">The Multicomp MCMR series resistors are automotive grade, anti sulphured thick film chip resistor. The resistance range includes E24 and E96 decade values from 1ohm to 10Mohm. These resistors are constructed on top of a high grade ceramic body.</span></div><div class="features-and-benefits-list"><ul class="features-and-benefits-list-list"><li class="features-and-benefits-list-item">EIA 0402, 0603, 0805, 1206 chip sizes available</li><li class="features-and-benefits-list-item">High reliability and stability</li><li class="features-and-benefits-list-item">Automotive grade AEC-Q200 compliant</li><li class="features-and-benefits-list-item">Complaint with (IEC 60068-1) 55/155/56 climatic category</li><li class="features-and-benefits-list-item">Maximum operation voltage of 50V, 75V, 150V and 200V</li><li class="features-and-benefits-list-item">Power rating of 62.5mW, 100mW, 125mW and 250mW</li><li class="features-and-benefits-list-item">Available in ±1% and ±5% tolerance</li><li class="features-and-benefits-list-item">Temperature coefficient (TCR) of +200ppm/°C, +100ppm/°C and -200ppm/°C to +400ppm/°C</li><li class="features-and-benefits-list-item">Operating temperature range -55°C to 155; Supplier 1: Farnell; Manufacturer: MULTICOMP; Manufacturer Part Number: MCMR12X000 PTL; RoHS: Y-EX; Stock 1: 526857; Pricing 1: 10=0.0252, 100=0.0179, 500=0.0111, 1000=0.0092, 2500=0.0069, 5000=0.0055, 25000=0.0037, 50000=0.0029 (GBP); Packaging: Cut Tape; Resistor Element Material: Ceramic; ComponentLink1URL: http://www.farnell.com/datasheets/1716709.pdf; ComponentLink1Description: http://www.farnell.com/datasheets/1716709.pdf; Supplier Part Number 1: 2073874
footprint RES1206
pins: 1, 2

## MH_7.4MMNC_3.2MMD
designator MH?  (value not drawn)  (no BOM)
Mounting Hole 7.4mm Diameter (Non Copper), 3.2mm Drill NPTH
footprint MH_7.4MMD_3.2MMD_NON_COPPER_NPTH (Creator MM)
pins: 1

## MHDR2X3H
designator P?  (value not drawn)
footprint HDR2X3_2.54MM_ANGLE (Creator MM. Boxed overlay added)
pins: 1, 2, 3, 4, 5, 6

## MHDR2X5
designator P?, comment HDR2X5
Manufacturer: HARWIN; Manufacturer Part Number: M20-9980545; Pitch Spacing: 2.54; No. of Contacts: 10; Gender: Header; Product Range: M20 Series; Contact Termination Type: Through Hole; No. of Rows: 2; SVHC: No SVHC (12-Jan-2017); Contact Resistance: 15; Contact Termination: Through Hole Vertical; Current Rating: 3; Insulation Resistance: 10000; No. of Mating Cycles: 300; Proof Voltage: 750; Working Voltage: 750V<!--FANDB--><div class="features-and-benefits-container"><div class="features-and-benefits-description"><span class="features-benefits-value">The M20-998 series from Harwin are 2.54mm pitch, double row DIL vertical PC tail pin headers.</span></div><div class="features-and-benefits-list"><ul class="features-and-benefits-list-list"><li class="features-and-benefits-list-item">6.1mm mating height</li><li class="features-and-benefits-list-item">Number of contacts varies from 2 to 40 per row</li><li class="features-and-benefits-list-item">Available in gold and tin over nickel finish</li><li class="features-and-benefits-list-item">Contact material is brass</li><li class="features-and-benefits-list-item">UL94 V-0 black colour high temperature polyamide (Nylon) 6T moulding</li><li class="features-and-benefits-list-item">Current rating is 3A maximum</li><li class="features-and-benefits-list-item">Contact resistance is 25mohm maximum (gold) and 30mohm maximum (tin)</li><li class="features-and-benefits-list-item">Operating temperature range -40°C to 105°C</li><li class="features-and-benefits-list-item">Durability of 300 operations (gold) and 50 operation (tin)</li><li class="features-and-benefits-list-item">Dielectric strength of 750; Supplier 1: Farnell; RoHS: YES; Stock 1: 13836; Pricing 1: 10=0.237, 20=0.226, 50=0.216, 100=0.205, 250=0.2, 500=0.195, 1000=0.163, 2500=0.135 (GBP); Contact Plating: Gold Plated Contacts; Contact Material: Phosphor Bronze; Lead Spacing: 2.54; Operating Temperature Max: 105; Operating Temperature Min: -40; Termination Method: Solder; Voltage Rating V AC: 750; ComponentLink1URL: http://www.farnell.com/datasheets/1089584.pdf; ComponentLink1Description: http://www.farnell.com/datasheets/1089584.pdf; ComponentLink2URL: http://www.farnell.com/cad/112195.pdf; ComponentLink2Description: http://www.farnell.com/cad/112195.pdf; ComponentLink3URL: http://www.farnell.com/datasheets/1712126.pdf; ComponentLink3Description: http://www.farnell.com/datasheets/1712126.pdf; Supplier Part Number 1: 1022235
footprint HDR2X5_CEN (Connector; Header; 5x2 Position)
pins: 1, 2, 3, 4, 5, 6, 7, 8, 9, 10

## MHDR2X9
designator P?, comment HED2X9  (value not drawn)
Header, 9-Pin, Dual row; LatestRevisionDate: 17-Jul-2002; LatestRevisionNote: Re-released for DXP Platform.; Publisher: Altium Limited
footprint HDR2X9 (Connector; Header; 9x2 Position)
pins: 1, 2, 3, 4, 5, 6, 7, 8, 9, 10, 11, 12, 13, 14, 15, 16, 17, 18

## MHDR2X15
designator P?
Header, 15-Pin, Dual row; LatestRevisionDate: 17-Jul-2002; LatestRevisionNote: Re-released for DXP Platform.; Publisher: Altium Limited
footprint HDR2X15 (Connector; Header; 15x2 Position)
pins: 1, 2, 3, 4, 5, 6, 7, 8, 9, 10, 11, 12, 13, 14, 15, 16, 17, 18, 19, 20, 21, 22, 23, 24, 25, 26, 27, 28, 29, 30

## MicroUSB
designator *
footprint 10118193 (Creator MM)
pins: 1 P1, 2 P2, 3 P3, 4 P4, 5 P5, 6, 7, 8, 9, 10, 11
text: 5V; D-; D+; ID; G

## MPZ1608D101B
designator FB?, comment 0.15OHM, 1A
TDK - MPZ1608D101B - FERRITE BEAD, 0.15OHM, 1A, 0603; Impedance @ 100MHz: 0.15; Ferrite Case Style: 0603 [1608 Metric]; Product Range: MPZ Series; DC Current Rating: 1; Impedance Tolerance: ± 25%; SVHC: No SVHC (15-Jun-2015); Ferrite Mounting: SMD; Resistance: 0.15ohm<!--FANDB--><div class="features-and-benefits-container"><div class="features-and-benefits-description"><span class="features-benefits-value">The TDK MPZ 1608 series are chip ferrite beads used for automobiles and power supply circuits. They are convenient components which exert effects as noise suppression measures by simply being inserted into circuits in series unlike bypass capacitors. Multilayer integration monolithic structure makes it highly reliable and has low direct current resistance for compatibility with large currents. Typical applications are engine control units, powertrains and car multimedia (telematics).</span></div><div class="features-and-benefits-list"><ul class="features-and-benefits-list-list"><li class="features-and-benefits-list-item">EIA 1608 standard chip size</li><li class="features-and-benefits-list-item">Impedance values at 100MHz is 120 ohm, 470 ohm</li><li class="features-and-benefits-list-item">Operating temperature range -55°C to 125; Supplier 1: Farnell; Manufacturer: TDK; Manufacturer Part Number: MPZ1608D101B; RoHS: YES; Stock 1: 22074; Pricing 1: 10=0.0643, 100=0.0326, 500=0.0261, 1000=0.021, 2000=0.02, 4000=0.0189, 20000=0.0179, 40000=0.0168 (GBP); DC Resistance Max: 0.15; Automotive Qualification Standard: -; Core Material: Ferrite; Packaging: Cut Tape; ComponentLink1URL: http://www.farnell.com/datasheets/84903.pdf; ComponentLink1Description: http://www.farnell.com/datasheets/84903.pdf; ComponentLink2URL: http://www.farnell.com/datasheets/2039849.pdf; ComponentLink2Description: http://www.farnell.com/datasheets/2039849.pdf; Supplier Part Number 1: 1669740
footprint CAP0805
pins: 1 (oc), 2 (oc)

## MRA4007T3G
designator D?
ON SEMICONDUCTOR - MRA4007T3G - DIODE, STANDARD, 1A, 1KV, SMA; Supplier 1: Farnell; Manufacturer: ON SEMICONDUCTOR; Manufacturer Part Number: MRA4007T3G; RoHS: YES; Stock 1: 92210; Pricing 1: 10=0.181, 100=0.0749, 500=0.0692, 1000=0.0478, 2500=0.0401 (GBP); ComponentLink1URL: http://www.onsemi.com/PowerSolutions/supportDoc.do?type=models&rpn=MRA4007; ComponentLink1Description: http://www.onsemi.com/PowerSolutions/supportDoc.do?type=models&rpn=MRA4007; ComponentLink2URL: http://www.farnell.com/datasheets/2028669.pdf; ComponentLink2Description: http://www.farnell.com/datasheets/2028669.pdf; ComponentLink3URL: http://www.farnell.com/datasheets/2037280.pdf; ComponentLink3Description: http://www.farnell.com/datasheets/2037280.pdf; Supplier Part Number 1: 1459137
footprint DIOM4326X24N_1 (Molded Diode, 2-Leads, Body 4.31x2.60mm, IPC Medium Density)
pins: 1 cathode, 2 ANODE

## PAM2306AYPKE
designator U?
Voltage Regulators - Switching Regulators Dual PWM Step-Down 40uA 1A 1.5MHz; Manufacturer: Diodes Incorporated; Input Voltage: 2.5 V to 5.5 V; Input Voltage MAX: 5.5 V; Number of Outputs: 2 Output; Output Voltage: 1.8 V, 3.3 V; Topology: Buck; Input Voltage MIN: 2.5 V; Load Regulation: 0.5 %; Supplier 1: Mouser; Manufacturer Part Number: PAM2306AYPKE; RoHS: RoHS Compliant; Category: Voltage Regulators - Switching Regulators; Stock 1: 166; Pricing 1: 1=0.717, 10=0.555, 100=0.358, 1000=0.287, 3000=0.242, 9000=0.233 (EUR); Operating Temperature Range: - 40 C to + 85 C; Output Current: 1 A; Package/Case: WDFN-EP-12; Packaging: Reel; Series: PAM2306; Type: PWM Step-Down DC-DC Converter; Brand: Diodes Incorporated; Mounting Style: SMD/SMT; Shutdown: Shutdown; Switching Frequency: 1.5 MHz; Maximum Operating Temperature: + 85 C; Minimum Operating Temperature: - 40 C; Operating Supply Current: 40 uA; Standard Pack Qty: 3000; Supply Voltage - Min: 2.5 V; Tradename: PAM2306; RoHS - Mouser: Y; Minimum Order Quantity: 1; Reeling: True; ComponentLink1URL: http://www.mouser.com/ds/2/115/PAM2306-336770.pdf; ComponentLink1Description: http://www.mouser.com/ds/2/115/PAM2306-336770.pdf; Supplier Part Number 1: 621-PAM2306AYPKE
footprint WDFN12L (Small 12L WDFN3x3 Package)
pins: 1 VIN2, 2 LX2, 3 GND_1, 4 FB1, 5 NC1, 6 EN1, 7 VIN1, 8 LX1, 9 GND_2, 10 FB2, 11 NC2, 12 EN2, 13 PAD